# Altium schematic symbol library pedals-SMD.SCHLIB: 15 symbols
Pins are listed as number, name and electrical type; pins without a type are passive.

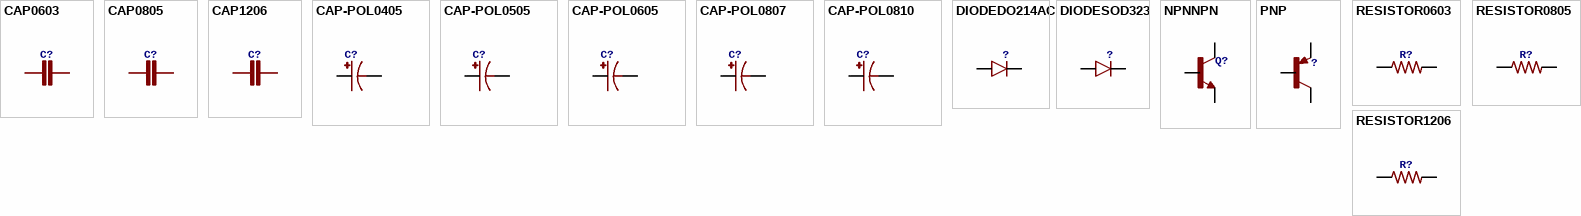
[diagram p0: symbols CAP0603 to RESISTOR1206]

## CAP0603
designator C?
footprint 0603
pins: 1, 2

## CAP0805
designator C?
footprint 0805
pins: 1, 2

## CAP1206
designator C?
footprint 1206
pins: 1, 2

## CAP-POL0405
designator C?
footprint CPOL-0405
pins: +, -

## CAP-POL0505
designator C?
footprint CPOL-0505
pins: +, -

## CAP-POL0605
designator C?
footprint CPOL-0605
pins: +, -

## CAP-POL0807
designator C?
footprint CPOL-0807
pins: +, -

## CAP-POL0810
designator C?
footprint CPOL-0810
pins: +, -

## DIODEDO214AC
designator ?
footprint D-DO214AC
pins: A, C

## DIODESOD323
designator ?
footprint D-SOD323
pins: 1 C, 2 A

## NPNNPN
designator Q?
footprint SOT23
pins: B, C, E

## PNP
designator ?
footprint SOT23
pins: B, C, E

## RESISTOR0603
designator R?
footprint 0603
pins: 1, 2

## RESISTOR0805
designator R?
footprint 0805
pins: 1, 2

## RESISTOR1206
designator R?
footprint 1206
pins: 1, 2